# EAGLE library part SL06 (library MRDT-Connectors)
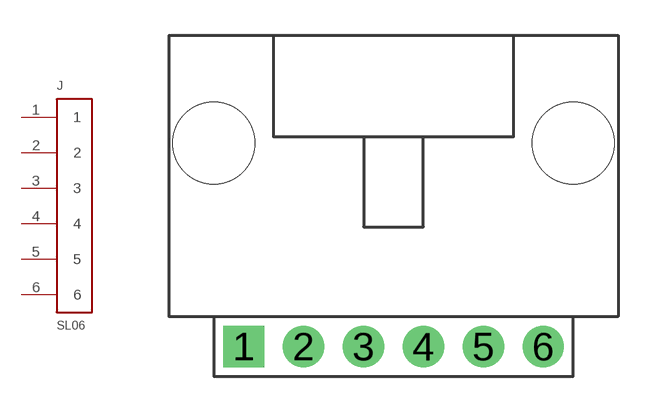
[diagram p4: symbol with the pads of MOLEX_SL_06_TH; footprint MOLEX_SL_06_TH]

Designator prefix J

## SL06  [MOLEX_SL_06_TH]
1  1
2  2
3  3
4  4
5  5
6  6

## Footprint MOLEX_SL_06_TH (pad centres in mm)
drill 1.168 square: 1 -6.35,0
drill 1.168: 2 -3.81,0; 3 -1.27,0; 4 1.27,0; 5 3.81,0; 6 6.35,0
hole 3.454 at -7.62,8.636
hole 3.454 at 7.62,8.636